# EAGLE library part 219-6LPST (library 219-6LPST)
Switch DIP ON OFF SPST 6 Flush Slide 0.1A 20VDC Gull Wing 2.54mm SMD Tube Source: Datasheet
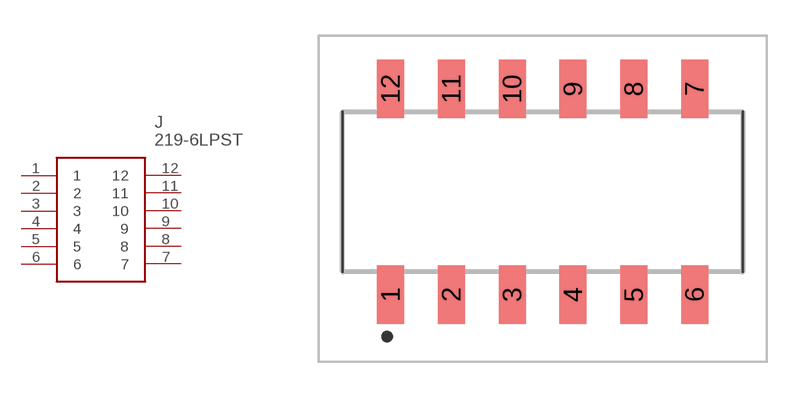
[diagram p0: symbol with the pads of 2196LPST; footprint 2196LPST]

Designator prefix J

## 219-6LPST (Description: Switch DIP ON OFF SPST 6 Flush Slide 0.1A 20VDC Gull Wing 2.54mm SMD Tube; Height: 4.2mm; Manufacturer_Name: CTS; Manufacturer_Part_Number: 219-6LPST; Mouser_Part_Number: 774-2196LPST; Mouser_Price-Stock: https://www.mouser.co.uk/ProductDetail/CTS-Electronic-Components/219-6LPST?qs=qNzHFtQhdJ%252BKgVpfJmEziw%3D%3D)  [2196LPST]
1  1
2  2
3  3
4  4
5  5
6  6
7  7
8  8
9  9
10  10
11  11
12  12

## Footprint 2196LPST (pad centres in mm)
219-6LPST-1
smd 1.13 x 2.44: 1 -6.35,-4.3; 2 -3.81,-4.3; 3 -1.27,-4.3; 4 1.27,-4.3; 5 3.81,-4.3; 6 6.35,-4.3; 7 6.35,4.3; 8 3.81,4.3; 9 1.27,4.3; 10 -1.27,4.3; 11 -3.81,4.3; 12 -6.35,4.3